# Altium schematic symbol library ADA4891-1.SchLib: 1 symbol
Pins are listed as number, name and electrical type; pins without a type are passive.

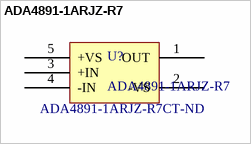
[diagram p0: symbol ADA4891-1ARJZ-R7]

## ADA4891-1ARJZ-R7
designator U?  Supplier Part Number 1: ADA4891-1ARJZ-R7CT-ND
Rail-to-rail amplifier 125mA max; Vendor: Analog Devices Inc; Built_By: EMA_UL_Team; Manufacturer_Part_Number: ADA4891-1ARJZ-R7; Copyright: Copyright (C) 2018 Accelerated Designs. All rights reserved; RefDes: RefDes; Type: DEV; Value: Value; Supplier 1: Digi-Key
footprint SOT-23-5 (5-pin SOT package)
pins: 1 OUT, 2 -VS, 3 +IN, 4 -IN, 5 +VS